# EAGLE library part 62001021121 (library Wuerth_Elektronik_eiCan_Pin_&_Socked_Headers_v1.3)
WR-PHD 2.00mm Dual Pin Header, 10 Pins
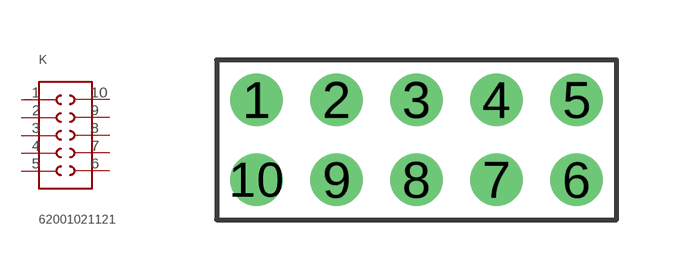
[diagram p272: symbol with the pads of 62001021121; footprint 62001021121]

Designator prefix K

## 62001021121  [62001021121]
1  1  pas
2  2  pas
3  3  pas
4  4  pas
5  5  pas
6  6  pas
7  7  pas
8  8  pas
9  9  pas
10  10  pas

## Footprint 62001021121 (pad centres in mm)
WR-PHD 2.00mm Dual Pin Header, 10 Pins
drill 0.8 round: 1 -4,1; 2 -2,1; 3 0,1; 4 2,1; 5 4,1; 6 4,-1; 7 2,-1; 8 0,-1; 9 -2,-1; 10 -4,-1